# Altium footprint library Button_Switch_SMD.PcbLib: 169 footprints (part 1 of 12)
Each footprint in its own frame and in the unit in brackets; x right, y up, seen from the top. Pads: shape width x height; smd on the part's side, far side on the other; paste and mask are expansions set on the pad; w line width, h text height; cw(c..) or ccw(c..) is an arc to the next point about the centre after c.
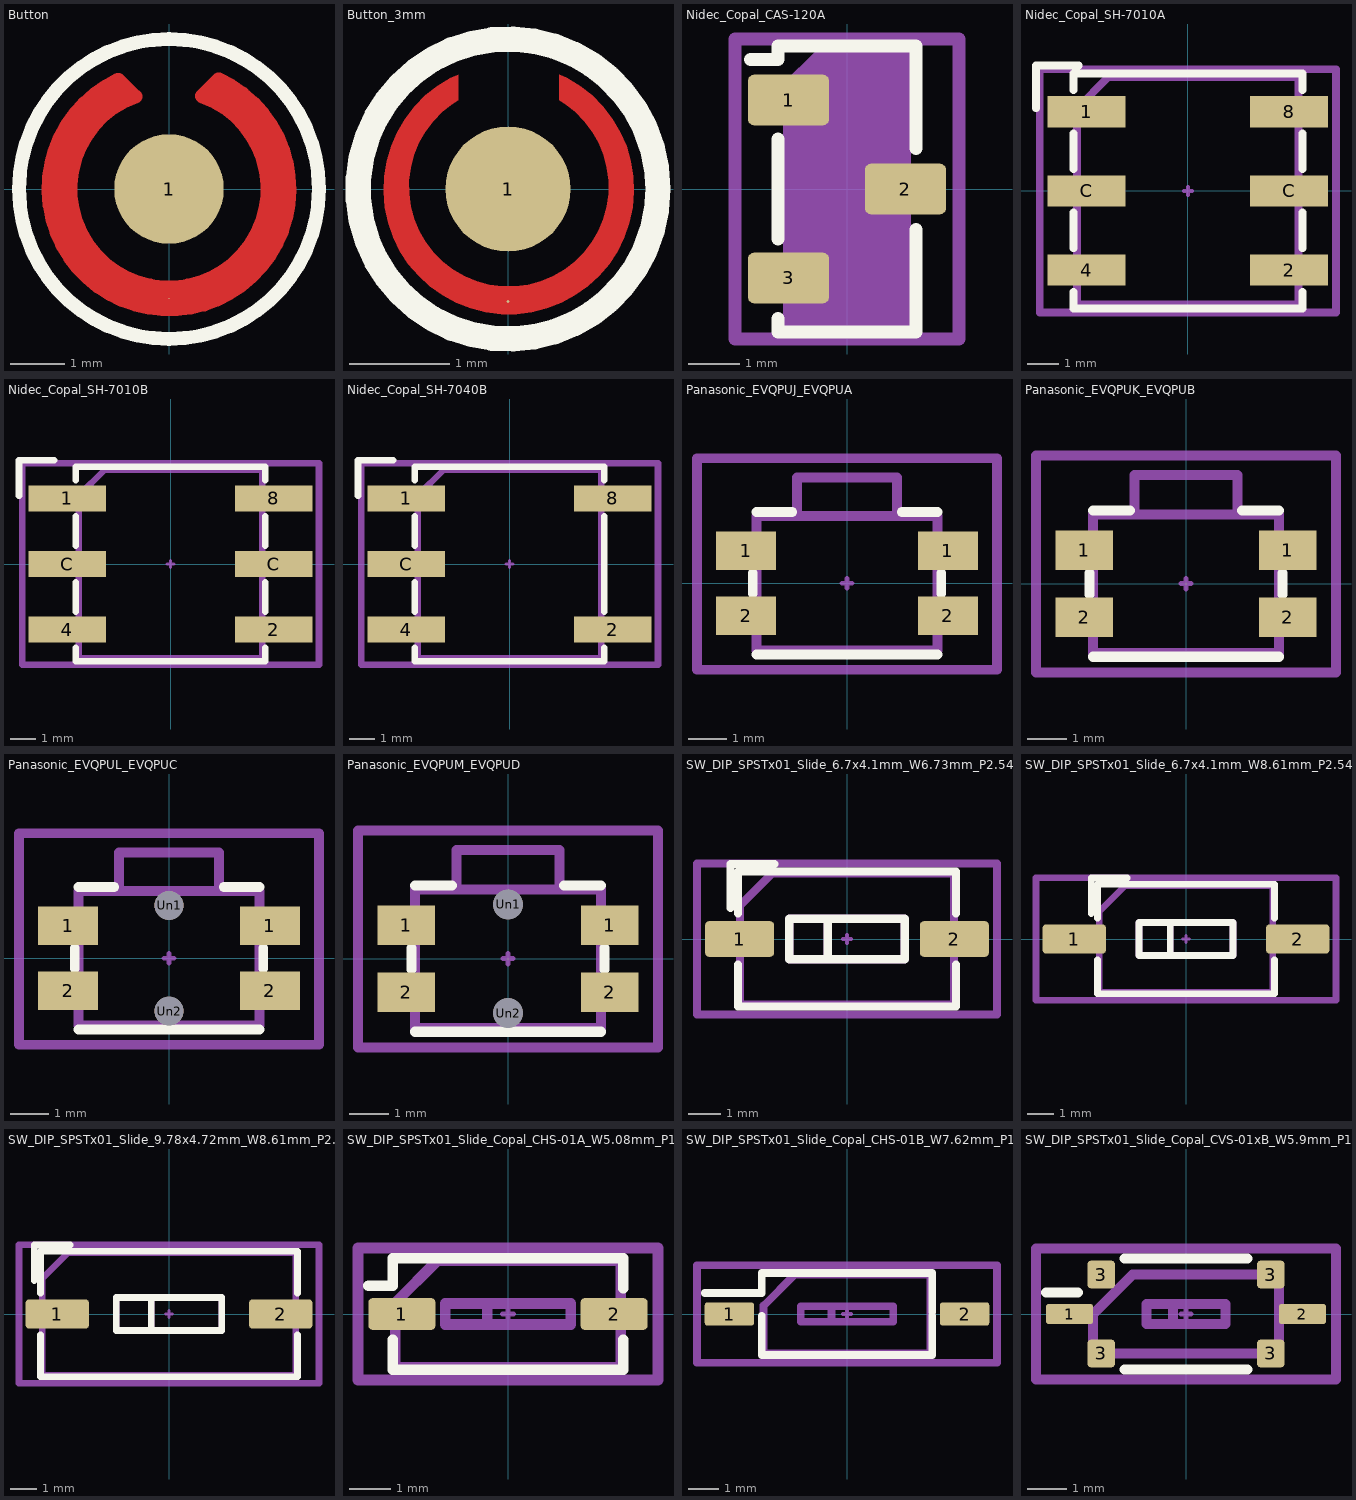
[diagram p0: the footprints below, top view; thin cyan lines are the x and y axes]

## Button [mm] "Button"
pads (3):
  round 2 smd: 1(0,0)
  round 0 smd: 2(-0.93,1.994)
  round 0.025 smd: 2(0,-2)
F.Cu:
  region: 0.91,2.003 1.001,1.962 1.174,1.863 1.337,1.75 1.49,1.622 1.63,1.481 1.757,1.328 1.869,1.164 1.967,0.991 2.048,0.809 2.113,0.621 2.16,0.428 2.19,0.231 2.202,0.033 2.196,-0.166 2.172,-0.363 2.13,-0.558 2.071,-0.748 1.996,-0.931 1.903,-1.108 1.796,-1.275 1.673,-1.432 1.537,-1.577 1.389,-1.709 1.229,-1.827 1.059,-1.931 0.881,-2.019 0.695,-2.09 0.504,-2.144 0.308,-2.181 0.11,-2.199 -0.089,-2.2 -0.287,-2.183 -0.483,-2.149 -0.675,-2.096 -0.861,-2.027 -1.04,-1.941 -1.211,-1.839 -1.372,-1.723 -1.522,-1.592 -1.659,-1.448 -1.783,-1.292 -1.893,-1.126 -1.986,-0.951 -2.064,-0.768 -2.125,-0.578 -2.168,-0.384 -2.194,-0.187 -2.202,0.012 -2.192,0.21 -2.164,0.407 -2.119,0.601 -2.056,0.789 -1.976,0.972 -1.881,1.146 -1.77,1.311 -1.644,1.465 -1.505,1.608 -1.354,1.737 -1.192,1.852 -1.02,1.952 -0.93,1.994 -0.622,1.692 -0.615,1.692 -0.699,1.659 -0.86,1.581 -1.014,1.488 -1.157,1.379 -1.288,1.257 -1.407,1.123 -1.512,0.977 -1.602,0.822 -1.675,0.658 -1.733,0.488 -1.773,0.313 -1.795,0.135 -1.799,-0.045 -1.786,-0.224 -1.755,-0.4 -1.706,-0.573 -1.641,-0.74 -1.559,-0.9 -1.462,-1.051 -1.35,-1.191 -1.224,-1.319 -1.087,-1.435 -0.939,-1.536 -0.781,-1.622 -0.616,-1.691 -0.444,-1.744 -0.268,-1.78 -0.09,-1.798 0.09,-1.798 0.268,-1.78 0.444,-1.744 0.616,-1.691 0.781,-1.622 0.939,-1.536 1.087,-1.435 1.224,-1.319 1.35,-1.191 1.462,-1.051 1.559,-0.9 1.641,-0.74 1.706,-0.573 1.755,-0.4 1.786,-0.224 1.799,-0.045 1.795,0.135 1.773,0.313 1.733,0.488 1.675,0.658 1.602,0.822 1.512,0.977 1.407,1.123 1.288,1.257 1.157,1.379 1.014,1.488 0.86,1.581 0.699,1.659 0.615,1.692 0.603,1.7 0.906,2.003
  lines w0.254: -0.93,1.994 ccw(c0,0) 0.91,2.003 ; -0.926,1.995 -0.622,1.692 ; -0.615,1.692 ccw(c0,0) 0.615,1.692 ; 0.603,1.7 0.906,2.003
F.SilkS:
  circle w0.254: c0,0 r2.74
F.Paste:
  region: 0.91,2.003 1.001,1.962 1.174,1.863 1.337,1.75 1.49,1.622 1.63,1.481 1.757,1.328 1.869,1.164 1.967,0.991 2.048,0.809 2.113,0.621 2.16,0.428 2.19,0.231 2.202,0.033 2.196,-0.166 2.172,-0.363 2.13,-0.558 2.071,-0.748 1.996,-0.931 1.903,-1.108 1.796,-1.275 1.673,-1.432 1.537,-1.577 1.389,-1.709 1.229,-1.827 1.059,-1.931 0.881,-2.019 0.695,-2.09 0.504,-2.144 0.308,-2.181 0.11,-2.199 -0.089,-2.2 -0.287,-2.183 -0.483,-2.149 -0.675,-2.096 -0.861,-2.027 -1.04,-1.941 -1.211,-1.839 -1.372,-1.723 -1.522,-1.592 -1.659,-1.448 -1.783,-1.292 -1.893,-1.126 -1.986,-0.951 -2.064,-0.768 -2.125,-0.578 -2.168,-0.384 -2.194,-0.187 -2.202,0.012 -2.192,0.21 -2.164,0.407 -2.119,0.601 -2.056,0.789 -1.976,0.972 -1.881,1.146 -1.77,1.311 -1.644,1.465 -1.505,1.608 -1.354,1.737 -1.192,1.852 -1.02,1.952 -0.93,1.994 -0.622,1.692 -0.615,1.692 -0.699,1.659 -0.86,1.581 -1.014,1.488 -1.157,1.379 -1.288,1.257 -1.407,1.123 -1.512,0.977 -1.602,0.822 -1.675,0.658 -1.733,0.488 -1.773,0.313 -1.795,0.135 -1.799,-0.045 -1.786,-0.224 -1.755,-0.4 -1.706,-0.573 -1.641,-0.74 -1.559,-0.9 -1.462,-1.051 -1.35,-1.191 -1.224,-1.319 -1.087,-1.435 -0.939,-1.536 -0.781,-1.622 -0.616,-1.691 -0.444,-1.744 -0.268,-1.78 -0.09,-1.798 0.09,-1.798 0.268,-1.78 0.444,-1.744 0.616,-1.691 0.781,-1.622 0.939,-1.536 1.087,-1.435 1.224,-1.319 1.35,-1.191 1.462,-1.051 1.559,-0.9 1.641,-0.74 1.706,-0.573 1.755,-0.4 1.786,-0.224 1.799,-0.045 1.795,0.135 1.773,0.313 1.733,0.488 1.675,0.658 1.602,0.822 1.512,0.977 1.407,1.123 1.288,1.257 1.157,1.379 1.014,1.488 0.86,1.581 0.699,1.659 0.615,1.692 0.603,1.7 0.906,2.003
F.Mask:
  region: 0.91,2.003 1.001,1.962 1.174,1.863 1.337,1.75 1.49,1.622 1.63,1.481 1.757,1.328 1.869,1.164 1.967,0.991 2.048,0.809 2.113,0.621 2.16,0.428 2.19,0.231 2.202,0.033 2.196,-0.166 2.172,-0.363 2.13,-0.558 2.071,-0.748 1.996,-0.931 1.903,-1.108 1.796,-1.275 1.673,-1.432 1.537,-1.577 1.389,-1.709 1.229,-1.827 1.059,-1.931 0.881,-2.019 0.695,-2.09 0.504,-2.144 0.308,-2.181 0.11,-2.199 -0.089,-2.2 -0.287,-2.183 -0.483,-2.149 -0.675,-2.096 -0.861,-2.027 -1.04,-1.941 -1.211,-1.839 -1.372,-1.723 -1.522,-1.592 -1.659,-1.448 -1.783,-1.292 -1.893,-1.126 -1.986,-0.951 -2.064,-0.768 -2.125,-0.578 -2.168,-0.384 -2.194,-0.187 -2.202,0.012 -2.192,0.21 -2.164,0.407 -2.119,0.601 -2.056,0.789 -1.976,0.972 -1.881,1.146 -1.77,1.311 -1.644,1.465 -1.505,1.608 -1.354,1.737 -1.192,1.852 -1.02,1.952 -0.93,1.994 -0.622,1.692 -0.615,1.692 -0.699,1.659 -0.86,1.581 -1.014,1.488 -1.157,1.379 -1.288,1.257 -1.407,1.123 -1.512,0.977 -1.602,0.822 -1.675,0.658 -1.733,0.488 -1.773,0.313 -1.795,0.135 -1.799,-0.045 -1.786,-0.224 -1.755,-0.4 -1.706,-0.573 -1.641,-0.74 -1.559,-0.9 -1.462,-1.051 -1.35,-1.191 -1.224,-1.319 -1.087,-1.435 -0.939,-1.536 -0.781,-1.622 -0.616,-1.691 -0.444,-1.744 -0.268,-1.78 -0.09,-1.798 0.09,-1.798 0.268,-1.78 0.444,-1.744 0.616,-1.691 0.781,-1.622 0.939,-1.536 1.087,-1.435 1.224,-1.319 1.35,-1.191 1.462,-1.051 1.559,-0.9 1.641,-0.74 1.706,-0.573 1.755,-0.4 1.786,-0.224 1.799,-0.045 1.795,0.135 1.773,0.313 1.733,0.488 1.675,0.658 1.602,0.822 1.512,0.977 1.407,1.123 1.288,1.257 1.157,1.379 1.014,1.488 0.86,1.581 0.699,1.659 0.615,1.692 0.603,1.7 0.906,2.003
Top Component Center:
  lines w0.127: -0.127,0 0.127,0 ; 0,-0.127 0,0.127
Top Designator:
  text ".Designator" at -3.432,1.052 h1.52

## Button_3mm [mm] "Button_3mm"
pads (3):
  round 1.25 smd: 1(0,0)
  round 0 smd: 2(-0.5,1.142)
  round 0.025 smd: 2(0,-1.125)
F.Cu:
  region: 0.515,1.142 0.586,1.111 0.719,1.031 0.841,0.935 0.95,0.825 1.044,0.703 1.123,0.569 1.185,0.427 1.229,0.278 1.254,0.125 1.26,-0.029 1.247,-0.184 1.214,-0.335 1.164,-0.482 1.095,-0.621 1.01,-0.75 0.91,-0.868 0.796,-0.973 0.67,-1.063 0.533,-1.137 0.389,-1.193 0.239,-1.231 0.085,-1.25 -0.07,-1.25 -0.224,-1.231 -0.374,-1.193 -0.518,-1.137 -0.654,-1.063 -0.781,-0.973 -0.895,-0.868 -0.995,-0.75 -1.08,-0.621 -1.148,-0.482 -1.199,-0.335 -1.231,-0.184 -1.244,-0.029 -1.238,0.125 -1.213,0.278 -1.17,0.427 -1.108,0.569 -1.029,0.703 -0.934,0.825 -0.825,0.935 -0.704,1.031 -0.571,1.111 -0.5,1.142 -0.499,0.886 -0.554,0.851 -0.657,0.771 -0.748,0.678 -0.827,0.574 -0.892,0.461 -0.941,0.34 -0.974,0.214 -0.99,0.084 -0.99,-0.046 -0.972,-0.175 -0.938,-0.301 -0.888,-0.422 -0.822,-0.534 -0.743,-0.638 -0.65,-0.73 -0.547,-0.809 -0.433,-0.874 -0.313,-0.924 -0.187,-0.957 -0.058,-0.974 0.073,-0.974 0.202,-0.957 0.328,-0.924 0.449,-0.874 0.562,-0.809 0.665,-0.73 0.758,-0.638 0.838,-0.534 0.903,-0.422 0.953,-0.301 0.988,-0.175 1.005,-0.046 1.006,0.084 0.989,0.214 0.956,0.34 0.907,0.461 0.843,0.574 0.764,0.678 0.672,0.771 0.569,0.851 0.514,0.886 0.514,1.141
F.SilkS:
  circle w0.254: c0,0 r1.5
F.Paste:
  region: 0.515,1.142 0.586,1.111 0.719,1.031 0.841,0.935 0.95,0.825 1.044,0.703 1.123,0.569 1.185,0.427 1.229,0.278 1.254,0.125 1.26,-0.029 1.247,-0.184 1.214,-0.335 1.164,-0.482 1.095,-0.621 1.01,-0.75 0.91,-0.868 0.796,-0.973 0.67,-1.063 0.533,-1.137 0.389,-1.193 0.239,-1.231 0.085,-1.25 -0.07,-1.25 -0.224,-1.231 -0.374,-1.193 -0.518,-1.137 -0.654,-1.063 -0.781,-0.973 -0.895,-0.868 -0.995,-0.75 -1.08,-0.621 -1.148,-0.482 -1.199,-0.335 -1.231,-0.184 -1.244,-0.029 -1.238,0.125 -1.213,0.278 -1.17,0.427 -1.108,0.569 -1.029,0.703 -0.934,0.825 -0.825,0.935 -0.704,1.031 -0.571,1.111 -0.5,1.142 -0.499,0.886 -0.554,0.851 -0.657,0.771 -0.748,0.678 -0.827,0.574 -0.892,0.461 -0.941,0.34 -0.974,0.214 -0.99,0.084 -0.99,-0.046 -0.972,-0.175 -0.938,-0.301 -0.888,-0.422 -0.822,-0.534 -0.743,-0.638 -0.65,-0.73 -0.547,-0.809 -0.433,-0.874 -0.313,-0.924 -0.187,-0.957 -0.058,-0.974 0.073,-0.974 0.202,-0.957 0.328,-0.924 0.449,-0.874 0.562,-0.809 0.665,-0.73 0.758,-0.638 0.838,-0.534 0.903,-0.422 0.953,-0.301 0.988,-0.175 1.005,-0.046 1.006,0.084 0.989,0.214 0.956,0.34 0.907,0.461 0.843,0.574 0.764,0.678 0.672,0.771 0.569,0.851 0.514,0.886 0.514,1.141
F.Mask:
  region: 0.515,1.142 0.586,1.111 0.719,1.031 0.841,0.935 0.95,0.825 1.044,0.703 1.123,0.569 1.185,0.427 1.229,0.278 1.254,0.125 1.26,-0.029 1.247,-0.184 1.214,-0.335 1.164,-0.482 1.095,-0.621 1.01,-0.75 0.91,-0.868 0.796,-0.973 0.67,-1.063 0.533,-1.137 0.389,-1.193 0.239,-1.231 0.085,-1.25 -0.07,-1.25 -0.224,-1.231 -0.374,-1.193 -0.518,-1.137 -0.654,-1.063 -0.781,-0.973 -0.895,-0.868 -0.995,-0.75 -1.08,-0.621 -1.148,-0.482 -1.199,-0.335 -1.231,-0.184 -1.244,-0.029 -1.238,0.125 -1.213,0.278 -1.17,0.427 -1.108,0.569 -1.029,0.703 -0.934,0.825 -0.825,0.935 -0.704,1.031 -0.571,1.111 -0.5,1.142 -0.499,0.886 -0.554,0.851 -0.657,0.771 -0.748,0.678 -0.827,0.574 -0.892,0.461 -0.941,0.34 -0.974,0.214 -0.99,0.084 -0.99,-0.046 -0.972,-0.175 -0.938,-0.301 -0.888,-0.422 -0.822,-0.534 -0.743,-0.638 -0.65,-0.73 -0.547,-0.809 -0.433,-0.874 -0.313,-0.924 -0.187,-0.957 -0.058,-0.974 0.073,-0.974 0.202,-0.957 0.328,-0.924 0.449,-0.874 0.562,-0.809 0.665,-0.73 0.758,-0.638 0.838,-0.534 0.903,-0.422 0.953,-0.301 0.988,-0.175 1.005,-0.046 1.006,0.084 0.989,0.214 0.956,0.34 0.907,0.461 0.843,0.574 0.764,0.678 0.672,0.771 0.569,0.851 0.514,0.886 0.514,1.141
Top Component Center:
  lines w0.127: -0.127,0 0.127,0 ; 0,-0.127 0,0.127
Top Designator:
  text ".Designator" at -2.253,-0.226 h1

## Nidec_Copal_CAS-120A [mm] "Nidec_Copal_CAS-120A"
pads (3):
  rrect25% 1.6x1 smd: 1(-1.15,1.75) 2(1.15,0) 3(-1.15,-1.75)
F.SilkS:
  lines w0.254: -1.9,2.55 -1.36,2.55 -1.36,2.8 ; -1.36,-2.81 -1.36,-2.55 ; -1.36,-0.98 -1.36,0.98 ; -1.36,2.81 1.36,2.81 1.36,0.8 ; -1.35,-2.81 1.35,-2.81 ; 1.36,-2.81 1.36,-0.8
Top Component Center:
  lines w0.127: -0.127,0 0.127,0 ; 0,-0.127 0,0.127
Top Assembly:
  region: 1.25,-2.7 -1.25,-2.7 -1.25,2.075 -0.625,2.7 1.25,2.7
Top Courtyard:
  lines w0.254: -2.2,-2.95 -2.2,2.95 2.2,2.95 2.2,-2.95 -2.2,-2.95
Top Designator:
  text ".Designator" at -3.432,-0.345 h1.52
Cmts.User:
  lines w0.254: -0.25,-1.15 0.25,-1.15 0.25,1.15 -0.25,1.15 -0.25,-1.15 ; -0.1,-1 0.1,-1 0.1,-0.45 -0.1,-0.45 -0.1,-1

## Nidec_Copal_SH-7010A [mm] "Nidec_Copal_SH-7010A"
pads (6):
  rect 2.5x1 smd: 1(-3.25,2.54) 2(3.25,-2.54) 4(-3.25,-2.54) 8(3.25,2.54) C(-3.25,0) C(3.25,0)
F.SilkS:
  lines w0.254: -4.87,2.65 -4.87,4.02 -3.5,4.02 ; -3.67,-3.24 -3.67,-3.77 3.67,-3.77 3.67,-3.24 ; -3.67,-1.84 -3.67,-0.7 ; -3.67,0.7 -3.67,1.84 ; -3.67,3.24 -3.67,3.77 3.67,3.77 3.67,3.24 ; 3.67,-1.84 3.67,-0.7 ; 3.67,0.7 3.67,1.84
Top Component Center:
  lines w0.127: -0.127,0 0.127,0 ; 0,-0.127 0,0.127
Top Assembly:
  lines w0.254: -3.55,-3.65 -3.55,2.65 -2.55,3.65 3.55,3.65 3.55,-3.65 -3.55,-3.65
Top Courtyard:
  lines w0.254: -4.75,-3.9 -4.75,3.9 4.75,3.9 4.75,-3.9 -4.75,-3.9
Top Designator:
  text ".Designator" at -3.432,0.798 h1.52
3D body "Nidec_Copal_SH-7010A.step": height 3.75, standoff 0, extent -3.75,-3.65 3.75,3.65

## Nidec_Copal_SH-7010B [mm] "Nidec_Copal_SH-7010B"
pads (6):
  rect 3x1 smd: 1(-4,2.54) 2(4,-2.54) 4(-4,-2.54) 8(4,2.54) C(-4,0) C(4,0)
F.SilkS:
  lines w0.254: -5.87,2.65 -5.87,4.02 -4.5,4.02 ; -3.67,-3.24 -3.67,-3.77 3.67,-3.77 3.67,-3.24 ; -3.67,-1.84 -3.67,-0.7 ; -3.67,0.7 -3.67,1.84 ; -3.67,3.24 -3.67,3.77 3.67,3.77 3.67,3.24 ; 3.67,-1.84 3.67,-0.7 ; 3.67,0.7 3.67,1.84
Top Component Center:
  lines w0.127: -0.127,0 0.127,0 ; 0,-0.127 0,0.127
Top Assembly:
  lines w0.254: -3.55,-3.65 -3.55,2.65 -2.55,3.65 3.55,3.65 3.55,-3.65 -3.55,-3.65
Top Courtyard:
  lines w0.254: -5.75,-3.9 -5.75,3.9 5.75,3.9 5.75,-3.9 -5.75,-3.9
Top Designator:
  text ".Designator" at -3.559,0.671 h1.52
3D body "Nidec_Copal_SH-7010B.step": height 3.75, standoff 0, extent -5,-3.65 5,3.65

## Nidec_Copal_SH-7040B [mm] "Nidec_Copal_SH-7040B"
pads (5):
  rect 3x1 smd: 1(-4,2.54) 2(4,-2.54) 4(-4,-2.54) 8(4,2.54) C(-4,0)
F.SilkS:
  lines w0.254: -5.87,2.65 -5.87,4.02 -4.5,4.02 ; -3.67,-3.24 -3.67,-3.77 3.67,-3.77 3.67,-3.24 ; -3.67,-1.84 -3.67,-0.7 ; -3.67,0.7 -3.67,1.84 ; -3.67,3.24 -3.67,3.77 3.67,3.77 3.67,3.24 ; 3.67,-1.84 3.67,1.84
Top Component Center:
  lines w0.127: -0.127,0 0.127,0 ; 0,-0.127 0,0.127
Top Assembly:
  lines w0.254: -3.55,-3.65 3.55,-3.65 3.55,3.65 -2.55,3.65 -3.55,2.65 -3.55,-3.65
Top Courtyard:
  lines w0.254: -5.75,-3.9 5.75,-3.9 5.75,3.9 -5.75,3.9 -5.75,-3.9
Top Designator:
  text ".Designator" at -3.432,-0.345 h1.52
3D body "Nidec_Copal_SH-7040B.step": height 3.75, standoff 0, extent -5,-3.65 5,3.65

## Panasonic_EVQPUJ_EVQPUA [mm] "Panasonic_EVQPUJ_EVQPUA"
pads (4):
  rect 1.55x1 smd: 1(-2.625,0.85) 1(2.625,0.85) 2(-2.625,-0.85) 2(2.625,-0.85)
F.SilkS:
  lines w0.254: -2.45,-0.275 -2.45,0.275 ; -2.35,-1.85 2.35,-1.85 ; -2.35,1.85 -1.425,1.85 ; 1.425,1.85 2.35,1.85 ; 2.45,-0.275 2.45,0.275
Top Component Center:
  lines w0.127: -0.127,0 0.127,0 ; 0,-0.127 0,0.127
Top Assembly:
  lines w0.254: -1.3,1.75 -1.3,2.75 1.3,2.75 1.3,1.75 ; -2.35,-1.75 -2.35,1.75 2.35,1.75 2.35,-1.75 -2.35,-1.75
Top Courtyard:
  lines w0.254: -3.9,-2.25 -3.9,3.25 3.9,3.25 3.9,-2.25 -3.9,-2.25
Top Designator:
  text ".Designator" at -3.432,1.941 h1.52

## Panasonic_EVQPUK_EVQPUB [mm] "Panasonic_EVQPUK_EVQPUB"
pads (4):
  rect 1.45x1 smd: 1(-2.575,0.85) 1(2.575,0.85) 2(-2.575,-0.85) 2(2.575,-0.85)
F.SilkS:
  lines w0.254: -2.45,-0.275 -2.45,0.275 ; -2.35,-1.85 2.35,-1.85 ; -2.35,1.85 -1.425,1.85 ; 1.425,1.85 2.35,1.85 ; 2.45,-0.275 2.45,0.275
Top Component Center:
  lines w0.127: -0.127,0 0.127,0 ; 0,-0.127 0,0.127
Top Assembly:
  lines w0.254: -1.3,1.75 -1.3,2.75 1.3,2.75 1.3,1.75 ; -2.35,-1.75 2.35,-1.75 2.35,1.75 -2.35,1.75 -2.35,-1.75
Top Courtyard:
  lines w0.254: -3.8,-2.25 3.8,-2.25 3.8,3.25 -3.8,3.25 -3.8,-2.25
Top Designator:
  text ".Designator" at -3.559,1.941 h1.52

## Panasonic_EVQPUL_EVQPUC [mm] "Panasonic_EVQPUL_EVQPUC"
pads (6):
  rect 1.55x1 smd: 1(-2.625,0.85) 1(2.625,0.85) 2(-2.625,-0.85) 2(2.625,-0.85)
  round 0.75 hole 0.75: Un1(0,1.375) Un2(0,-1.375)
F.SilkS:
  lines w0.254: -2.45,-0.275 -2.45,0.275 ; -2.35,-1.85 2.35,-1.85 ; -2.35,1.85 -1.425,1.85 ; 1.425,1.85 2.35,1.85 ; 2.45,-0.275 2.45,0.275
Top Component Center:
  lines w0.127: -0.127,0 0.127,0 ; 0,-0.127 0,0.127
Top Assembly:
  lines w0.254: -1.3,1.75 -1.3,2.75 1.3,2.75 1.3,1.75 ; -2.35,-1.75 2.35,-1.75 2.35,1.75 -2.35,1.75 -2.35,-1.75
Top Courtyard:
  lines w0.254: -3.9,-2.25 3.9,-2.25 3.9,3.25 -3.9,3.25 -3.9,-2.25
Top Designator:
  text ".Designator" at -3.305,2.068 h1.52

## Panasonic_EVQPUM_EVQPUD [mm] "Panasonic_EVQPUM_EVQPUD"
pads (6):
  rect 1.45x1 smd: 1(-2.575,0.85) 1(2.575,0.85) 2(-2.575,-0.85) 2(2.575,-0.85)
  round 0.75 hole 0.75: Un1(0,1.375) Un2(0,-1.375)
F.SilkS:
  lines w0.254: -2.45,-0.275 -2.45,0.275 ; -2.35,-1.85 2.35,-1.85 ; -2.35,1.85 -1.425,1.85 ; 1.425,1.85 2.35,1.85 ; 2.45,-0.275 2.45,0.275
Top Component Center:
  lines w0.127: -0.127,0 0.127,0 ; 0,-0.127 0,0.127
Top Assembly:
  lines w0.254: -1.3,1.75 -1.3,2.75 1.3,2.75 1.3,1.75 ; -2.35,-1.75 -2.35,1.75 2.35,1.75 2.35,-1.75 -2.35,-1.75
Top Courtyard:
  lines w0.254: -3.8,-2.25 -3.8,3.25 3.8,3.25 3.8,-2.25 -3.8,-2.25
Top Designator:
  text ".Designator" at -3.305,2.068 h1.52

## SW_DIP_SPSTx01_Slide_6.7x4.1mm_W6.73mm_P2.54mm_LowProfile_JPin [mm] "SW_DIP_SPSTx01_Slide_6.7x4.1mm_W6.73mm_P2.54mm_LowProfile_JPin"
pads (2):
  rrect22% 2.16x1.12 smd: 1(-3.365,0) 2(3.365,0)
F.SilkS:
  lines w0.254: -3.65,0.967 -3.65,2.35 -2.267,2.35 ; -3.41,-0.8 -3.41,-2.11 3.41,-2.11 3.41,-0.8 ; -3.41,0.8 -3.41,2.11 3.41,2.11 3.41,0.8 ; -1.81,-0.635 1.81,-0.635 1.81,0.635 -1.81,0.635 ; -1.81,-0.635 -1.81,0.635 ; -1.81,-0.635 -0.603,-0.635 ; -1.81,-0.635 -1.81,0.635 ; -1.81,0.635 -0.603,0.635 ; -0.603,-0.635 -0.603,0.635 ; -0.603,-0.635 -0.603,0.635
Top Component Center:
  lines w0.127: -0.127,0 0.127,0 ; 0,-0.127 0,0.127
Top Assembly:
  lines w0.254: -1.81,-0.635 1.81,-0.635 1.81,0.635 -1.81,0.635 ; -1.81,-0.635 -1.81,0.635 ; -1.81,-0.635 -0.603,-0.635 ; -1.81,-0.635 -1.81,0.635 ; -1.81,0.635 -0.603,0.635 ; -0.603,-0.635 -0.603,0.635 ; -0.603,-0.635 -0.603,0.635 ; -3.35,-2.05 3.35,-2.05 3.35,2.05 -2.35,2.05 -3.35,1.05 -3.35,-2.05
  text "on" at 0.399,1.053 h0.6
Top Courtyard:
  lines w0.254: -4.7,-2.36 4.7,-2.36 4.7,2.36 -4.7,2.36 -4.7,-2.36
Top Designator:
  text ".Designator" at -3.559,-1.742 h1.52
3D body "SW_SPST_REED_CT10-XXXX-G4.step": height 2.9, standoff 0, extent -9.97,-1.2 9.97,1.2

## SW_DIP_SPSTx01_Slide_6.7x4.1mm_W8.61mm_P2.54mm_LowProfile [mm] "SW_DIP_SPSTx01_Slide_6.7x4.1mm_W8.61mm_P2.54mm_LowProfile"
pads (2):
  rrect22% 2.44x1.12 smd: 1(-4.305,0) 2(4.305,0)
F.SilkS:
  lines w0.254: -3.65,0.967 -3.65,2.35 -2.267,2.35 ; -3.41,-0.8 -3.41,-2.11 3.41,-2.11 3.41,-0.8 ; -3.41,0.8 -3.41,2.11 3.41,2.11 3.41,0.8 ; -1.81,-0.635 1.81,-0.635 1.81,0.635 -1.81,0.635 ; -1.81,-0.635 -1.81,0.635 ; -1.81,-0.635 -0.603,-0.635 ; -1.81,-0.635 -1.81,0.635 ; -1.81,0.635 -0.603,0.635 ; -0.603,-0.635 -0.603,0.635 ; -0.603,-0.635 -0.603,0.635
Top Component Center:
  lines w0.127: -0.127,0 0.127,0 ; 0,-0.127 0,0.127
Top Assembly:
  lines w0.254: -1.81,-0.635 1.81,-0.635 1.81,0.635 -1.81,0.635 ; -1.81,-0.635 -1.81,0.635 ; -1.81,-0.635 -0.603,-0.635 ; -1.81,-0.635 -1.81,0.635 ; -1.81,0.635 -0.603,0.635 ; -0.603,-0.635 -0.603,0.635 ; -0.603,-0.635 -0.603,0.635 ; -3.35,-2.05 3.35,-2.05 3.35,2.05 -2.35,2.05 -3.35,1.05 -3.35,-2.05
  text "on" at -0.071,1.053 h0.6
Top Courtyard:
  lines w0.254: -5.78,-2.36 5.78,-2.36 5.78,2.36 -5.78,2.36 -5.78,-2.36
Top Designator:
  text ".Designator" at -3.559,-1.742 h1.52
3D body "SW_DIP_SPSTx01_Slide_6.7x4.1mm_W8.61mm_P2.54mm_LowProfile.step": height 2.7, standoff 0, extent -4.051,-2.032 4.559,2.068

## SW_DIP_SPSTx01_Slide_9.78x4.72mm_W8.61mm_P2.54mm [mm] "SW_DIP_SPSTx01_Slide_9.78x4.72mm_W8.61mm_P2.54mm"
pads (2):
  rrect22% 2.44x1.12 smd: 1(-4.305,0) 2(4.305,0)
F.SilkS:
  lines w0.254: -5.19,1.277 -5.19,2.66 -3.807,2.66 ; -4.95,-0.8 -4.95,-2.42 4.95,-2.42 4.95,-0.8 ; -4.95,0.8 -4.95,2.42 4.95,2.42 4.95,0.8 ; -2.03,-0.635 2.03,-0.635 2.03,0.635 -2.03,0.635 ; -2.03,-0.635 -2.03,0.635 ; -2.03,-0.635 -0.677,-0.635 ; -2.03,-0.635 -2.03,0.635 ; -2.03,0.635 -0.677,0.635 ; -0.677,-0.635 -0.677,0.635 ; -0.677,-0.635 -0.677,0.635
Top Component Center:
  lines w0.127: -0.127,0 0.127,0 ; 0,-0.127 0,0.127
Top Assembly:
  lines w0.254: -2.03,-0.635 2.03,-0.635 2.03,0.635 -2.03,0.635 ; -2.03,-0.635 -2.03,0.635 ; -2.03,-0.635 -0.677,-0.635 ; -2.03,-0.635 -2.03,0.635 ; -2.03,0.635 -0.677,0.635 ; -0.677,-0.635 -0.677,0.635 ; -0.677,-0.635 -0.677,0.635 ; -4.89,-2.36 4.89,-2.36 4.89,2.36 -3.89,2.36 -4.89,1.36 -4.89,-2.36
  text "on" at 0.809,1.208 h0.6
Top Courtyard:
  lines w0.254: -5.78,-2.67 5.78,-2.67 5.78,2.67 -5.78,2.67 -5.78,-2.67
Top Designator:
  text ".Designator" at -3.686,-1.869 h1.52
3D body "SW_DIP_SPSTx01_Slide_9.78x4.72mm_W8.61mm_P2.54mm.step": height 8.6, standoff 0, extent -5.2,-2.36 5.2,2.36

## SW_DIP_SPSTx01_Slide_Copal_CHS-01A_W5.08mm_P1.27mm_JPin [mm] "SW_DIP_SPSTx01_Slide_Copal_CHS-01A_W5.08mm_P1.27mm_JPin"
pads (2):
  rrect25% 1.6x0.76 smd: 1(-2.54,0) 2(2.54,0)
F.SilkS:
  lines w0.254: -3.34,0.68 -2.76,0.68 -2.76,1.33 2.76,1.33 2.76,0.62 ; -2.76,-0.62 -2.76,-1.33 2.76,-1.33 2.76,-0.62
Top Component Center:
  lines w0.127: -0.127,0 0.127,0 ; 0,-0.127 0,0.127
Top Assembly:
  lines w0.254: -1.5,-0.25 1.5,-0.25 1.5,0.25 -1.5,0.25 ; -1.5,-0.25 -1.5,0.25 ; -1.5,-0.25 -0.5,-0.25 ; -1.5,-0.25 -1.5,0.25 ; -1.5,0.25 -0.5,0.25 ; -0.5,-0.25 -0.5,0.25 ; -0.5,-0.25 -0.5,0.25 ; -2.7,-1.27 2.7,-1.27 2.7,1.27 -1.7,1.27 -2.7,0.27 -2.7,-1.27
  text "on" at 0.332,0.47 h0.6
Top Courtyard:
  lines w0.254: -3.59,-1.58 3.59,-1.58 3.59,1.58 -3.59,1.58 -3.59,-1.58
Top Designator:
  text ".Designator" at -3.432,-1.234 h1.52
3D body "SW_DIP_SPSTx01_Slide_Copal_CHS-01A_W5.08mm_P1.27mm_JPin.step": height 2.65, standoff 0, extent -2.8,-1.25 2.8,1.25

## SW_DIP_SPSTx01_Slide_Copal_CHS-01B_W7.62mm_P1.27mm [mm] "SW_DIP_SPSTx01_Slide_Copal_CHS-01B_W7.62mm_P1.27mm"
pads (2):
  rrect25% 1.6x0.76 smd: 1(-3.81,0) 2(3.81,0)
F.SilkS:
  lines w0.254: -4.61,0.68 -2.76,0.68 -2.76,1.33 2.76,1.33 2.76,0.06 ; -2.76,-0.06 -2.76,-1.33 2.76,-1.33 2.76,-0.06
Top Component Center:
  lines w0.127: -0.127,0 0.127,0 ; 0,-0.127 0,0.127
Top Assembly:
  lines w0.254: -1.5,-0.25 1.5,-0.25 1.5,0.25 -1.5,0.25 ; -1.5,-0.25 -1.5,0.25 ; -1.5,-0.25 -0.5,-0.25 ; -1.5,-0.25 -1.5,0.25 ; -1.5,0.25 -0.5,0.25 ; -0.5,-0.25 -0.5,0.25 ; -0.5,-0.25 -0.5,0.25 ; -2.7,-1.27 2.7,-1.27 2.7,1.27 -1.7,1.27 -2.7,0.27 -2.7,-1.27
  text "on" at -0.303,0.47 h0.6
Top Courtyard:
  lines w0.254: -4.86,-1.58 4.86,-1.58 4.86,1.58 -4.86,1.58 -4.86,-1.58
Top Designator:
  text ".Designator" at -3.305,-1.234 h1.52
3D body "SW_DIP_SPSTx01_Slide_Copal_CHS-01B_W7.62mm_P1.27mm.step": height 2.6, standoff 0.03, extent -4,-1.25 4,1.25

## SW_DIP_SPSTx01_Slide_Copal_CVS-01xB_W5.9mm_P1mm [mm] "SW_DIP_SPSTx01_Slide_Copal_CVS-01xB_W5.9mm_P1mm"
pads (6):
  rrect25% 1.2x0.5 smd: 1(-2.95,0) 2(2.95,0)
  rrect25% 0.7x0.7 smd: 3(-2.15,-1) 3(-2.15,1) 3(2.15,-1) 3(2.15,1)
F.SilkS:
  lines w0.254: -3.55,0.55 -2.74,0.55 ; -1.56,-1.41 1.56,-1.41 ; -1.56,1.41 1.56,1.41
Top Component Center:
  lines w0.127: -0.127,0 0.127,0 ; 0,-0.127 0,0.127
Top Assembly:
  lines w0.254: -1,-0.25 -1,0.25 ; -1,-0.25 -0.333,-0.25 ; -1,-0.25 -1,0.25 ; -1,-0.25 1,-0.25 1,0.25 -1,0.25 ; -1,0.25 -0.333,0.25 ; -0.333,-0.25 -0.333,0.25 ; -0.333,-0.25 -0.333,0.25 ; -2.35,-1 -2.35,0 -1.35,1 2.35,1 2.35,-1 -2.35,-1
  text "on" at -0.298,0.335 h0.6
Top Courtyard:
  lines w0.254: -3.8,-1.66 -3.8,1.66 3.8,1.66 3.8,-1.66 -3.8,-1.66
Top Designator:
  text ".Designator" at -3.432,-0.345 h1.52
3D body "SW_DIP_SPSTx01_Slide_Copal_CVS-01xB_W5.9mm_P1mm.step": height 1.58, standoff 0.08, extent -3.05,-1 3.05,1